# Altium footprint library Phase4.PcbLib: 25 footprints (part 2 of 2)
Each footprint in its own frame and in the unit in brackets; x right, y up, seen from the top. Pads: shape width x height; smd on the part's side, far side on the other; paste and mask are expansions set on the pad; w line width, h text height; cw(c..) or ccw(c..) is an arc to the next point about the centre after c.
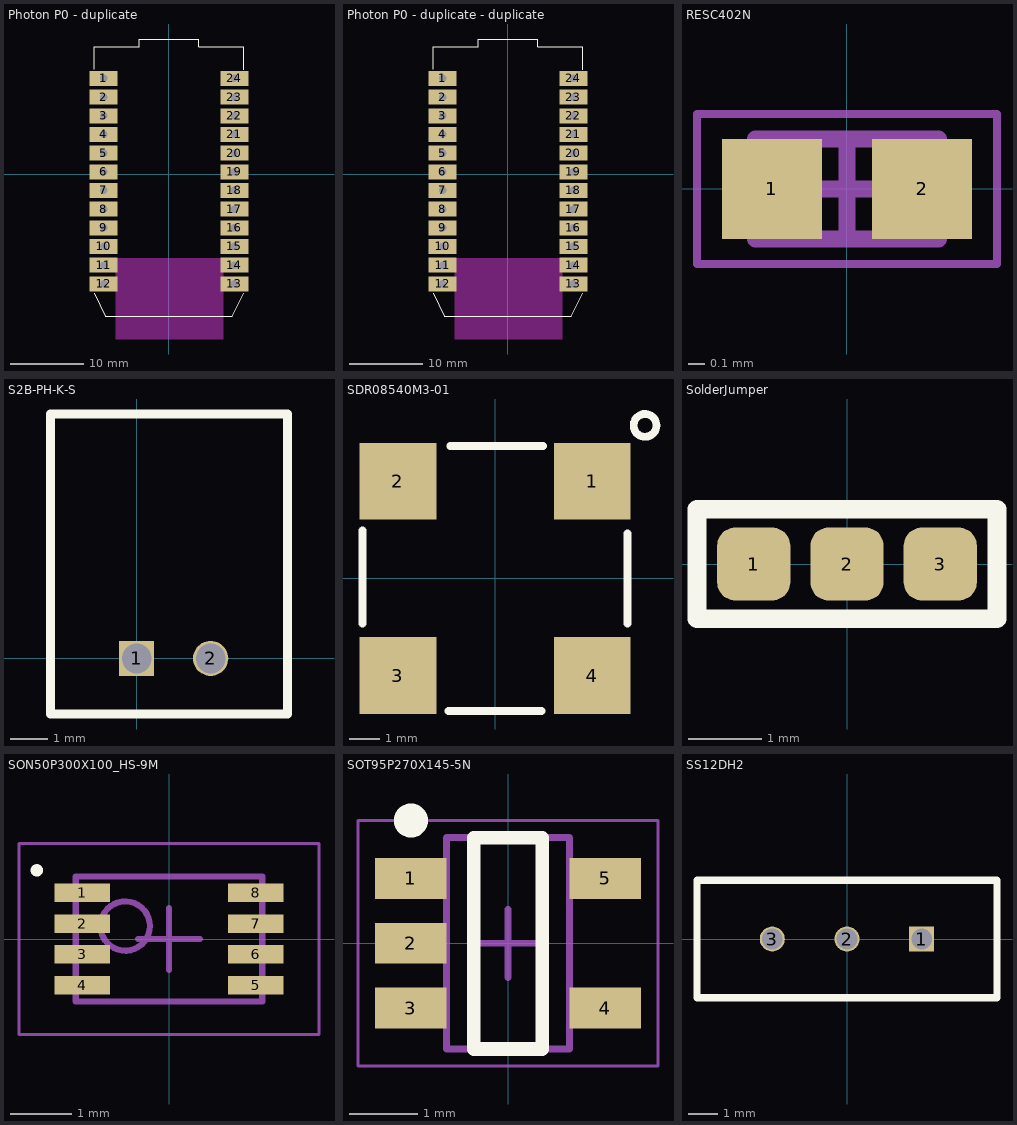
[diagram p1: the footprints below, top view; thin cyan lines are the x and y axes]

## Photon P0 - duplicate [mil]
pads (24):
  rect 150x80 smd: 1(-349.39,513.76) 2(-349.39,413.76) 3(-349.39,313.76) 4(-349.39,213.76) 5(-349.39,113.76) 6(-349.39,13.76) 7(-349.39,-86.24) 8(-349.39,-186.24) 9(-349.39,-286.24) 10(-349.39,-386.24) 11(-349.39,-486.24) 12(-349.41,-586.22) 13(351.39,-586.22) 14(351.38,-486.22) 15(351.38,-386.22) 16(351.38,-286.24) 17(351.38,-186.24) 18(351.38,-86.24) 19(351.38,13.76) 20(351.38,113.76) 21(351.38,213.76) 22(351.38,313.76) 23(351.38,413.76) 24(351.38,513.76)
via -349.41,513.78 diameter 40 hole 40
via -349.41,413.78 diameter 40 hole 40
via -349.39,313.76 diameter 40 hole 40
via -349.39,213.76 diameter 40 hole 40
via -349.39,113.76 diameter 40 hole 40
via -349.39,13.76 diameter 40 hole 40
via -349.39,-86.24 diameter 40 hole 40
via -349.39,-186.24 diameter 40 hole 40
via -349.39,-286.24 diameter 40 hole 40
via -349.39,-386.24 diameter 40 hole 40
via -349.39,-486.24 diameter 40 hole 40
via -349.41,-586.22 diameter 40 hole 40
via 351.38,513.76 diameter 40 hole 40
via 351.38,413.76 diameter 40 hole 40
via 351.38,313.76 diameter 40 hole 40
via 351.38,213.76 diameter 40 hole 40
via 351.38,113.76 diameter 40 hole 40
via 351.38,13.76 diameter 40 hole 40
via 351.38,-86.24 diameter 40 hole 40
via 351.38,-186.24 diameter 40 hole 40
via 351.38,-286.24 diameter 40 hole 40
via 351.38,-386.22 diameter 40 hole 40
via 351.38,-486.22 diameter 40 hole 40
via 351.39,-586.22 diameter 40 hole 40
Top Overlay:
  lines w3.94: -400.59,-635.83 -340,-758.86 ; -400.59,562.99 -400.59,653.54 -400.59,683.07 -157.88,683.07 -157.88,725.28 161.5,725.28 161.5,683.07 165.35,683.07 400.59,683.07 400.59,560.04 ; 0,-759.84 0.98,-758.86 -340,-758.86 ; 400.59,-635.83 340,-758.86 -340,-758.86
Multi-Layer keep-out:
  region: -283.46,-449.8 -282.48,-448.82 290.35,-448.82 290.35,-881.89 -283.46,-881.89
3D body "photon_214.STEP": height 173.52, standoff 2.84, extent -400,-757.5 402,724.7
3D body "Pin Header 1x12 TH Pitch 2.54mm.stp": height 442.74, standoff -57.09, extent 301.39,-636.21 401.39,563.79
3D body "Pin Header 1x12 TH Pitch 2.54mm.stp": height 442.74, standoff -57.09, extent -399.41,-636.21 -299.41,563.79

## Photon P0 - duplicate - duplicate [mil]
pads (24):
  rect 150x80 smd: 1(-349.39,513.76) 2(-349.39,413.76) 3(-349.39,313.76) 4(-349.39,213.76) 5(-349.39,113.76) 6(-349.39,13.76) 7(-349.39,-86.24) 8(-349.39,-186.24) 9(-349.39,-286.24) 10(-349.39,-386.24) 11(-349.39,-486.24) 12(-349.41,-586.22) 13(351.39,-586.22) 14(351.38,-486.22) 15(351.38,-386.22) 16(351.38,-286.24) 17(351.38,-186.24) 18(351.38,-86.24) 19(351.38,13.76) 20(351.38,113.76) 21(351.38,213.76) 22(351.38,313.76) 23(351.38,413.76) 24(351.38,513.76)
via -349.41,513.78 diameter 40 hole 40
via -349.41,413.78 diameter 40 hole 40
via -349.39,313.76 diameter 40 hole 40
via -349.39,213.76 diameter 40 hole 40
via -349.39,113.76 diameter 40 hole 40
via -349.39,13.76 diameter 40 hole 40
via -349.39,-86.24 diameter 40 hole 40
via -349.39,-186.24 diameter 40 hole 40
via -349.39,-286.24 diameter 40 hole 40
via -349.39,-386.24 diameter 40 hole 40
via -349.39,-486.24 diameter 40 hole 40
via -349.41,-586.22 diameter 40 hole 40
via 351.38,513.76 diameter 40 hole 40
via 351.38,413.76 diameter 40 hole 40
via 351.38,313.76 diameter 40 hole 40
via 351.38,213.76 diameter 40 hole 40
via 351.38,113.76 diameter 40 hole 40
via 351.38,13.76 diameter 40 hole 40
via 351.38,-86.24 diameter 40 hole 40
via 351.38,-186.24 diameter 40 hole 40
via 351.38,-286.24 diameter 40 hole 40
via 351.38,-386.22 diameter 40 hole 40
via 351.38,-486.22 diameter 40 hole 40
via 351.39,-586.22 diameter 40 hole 40
Top Overlay:
  lines w3.94: -400.59,-635.83 -340,-758.86 ; -400.59,562.99 -400.59,653.54 -400.59,683.07 -157.88,683.07 -157.88,725.28 161.5,725.28 161.5,683.07 165.35,683.07 400.59,683.07 400.59,560.04 ; 0,-759.84 0.98,-758.86 -340,-758.86 ; 400.59,-635.83 340,-758.86 -340,-758.86
Multi-Layer keep-out:
  region: -283.46,-449.8 -282.48,-448.82 290.35,-448.82 290.35,-881.89 -283.46,-881.89
3D body "photon_214.STEP": height 173.52, standoff 2.84, extent -400,-757.5 402,724.7
3D body "Pin Header 1x12 TH Pitch 2.54mm.stp": height 442.74, standoff -57.09, extent 301.39,-636.21 401.39,563.79
3D body "Pin Header 1x12 TH Pitch 2.54mm.stp": height 442.74, standoff -57.09, extent -399.41,-636.21 -299.41,563.79

## RESC402N [mm] "Chip Resistor, 2-Leads, Body 1.00x0.50mm, IPC Medium Density"
height 0.4
pads (2):
  rect 0.6x0.6 smd: 1(-0.45,0) 2(0.45,0)
Mechanical 13:
  lines w0.1: -0.55,-0.3 -0.55,0.3 0.55,0.3 0.55,-0.3 -0.55,-0.3
Mechanical 15:
  lines w0.05: -0.9,-0.45 -0.9,0.45 0.9,0.45 0.9,-0.45 -0.9,-0.45
  lines w0.1: -0.3,0 0.3,0 ; 0,-0.3 0,0.3
3D body "RESC402N.step": height 0.4, standoff 0, extent -0.55,-0.3 0.55,0.3

## S2B-PH-K-S [mm] "2 Positions Header, Shrouded Connector 0.079\" (2.00mm) Through Hole, Right Angle Tin"
pads (2):
  rect 0.95x0.95 hole 0.8: 1(0,0)
  round 0.95 hole 0.8: 2(2,0)
Top Overlay:
  lines w0.254: -2.325,-1.5 -2.325,6.6 0.275,6.6 1.475,6.6 4.075,6.6 4.075,-1.5 -2.325,-1.5
3D body "S2B-PH-K-S.STEP": height 5.05, standoff -3.15, extent -1.95,-1.325 3.95,6.275

## SDR08540M3-01 [mm] "Speakers & Transducers 88dB 85mA 3volts 2670Hz"
pads (4):
  rect 2.52x2.52 smd: 1(3.19,3.19) 2(-3.19,3.19) 3(-3.19,-3.19) 4(3.19,-3.19)
Top Overlay:
  circle w0.254: c4.925,5.025 r0.375
  lines w0.254: -4.35,-1.475 -4.35,1.575 ; -1.525,-4.35 1.525,-4.35 ; -1.475,4.35 1.575,4.35 ; 4.35,-1.475 4.35,1.475
3D body "SDR08540M3-01.stp": height 4, standoff -0.01, extent -4.225,-4.225 4.275,4.275

## SolderJumper [mm] "3 pos solder Jumper"
pads (3):
  rrect50% 1x1 smd: 1(-1.275,0) 2(0,0) 3(1.275,0)
Top Overlay:
  lines w0.254: -2.05,-0.75 2.05,-0.75 2.05,-0.225 2.05,0.6 2.05,0.75 -2.05,0.75 -2.05,-0.75

## SON50P300X100_HS-9M [mm] "SON, 8-Leads, Body 2.00x3.00mm, Pitch 0.50mm, Thermal Pad 1.63x1.06mm, IPC Low Density"
height 1
pads (8):
  rect 0.9x0.3 smd: 1(-1.405,0.75) 2(-1.405,0.25) 3(-1.405,-0.25) 4(-1.405,-0.75) 5(1.405,-0.75) 6(1.405,-0.25) 7(1.405,0.25) 8(1.405,0.75)
Top Overlay:
  circle w0.1: c-2.142,1.112 r0.05
Mechanical 13:
  circle w0.1: c-0.71,0.21 r0.4
  lines w0.1: -1.51,-1.01 -1.51,1.01 1.51,1.01 1.51,-1.01 -1.51,-1.01
Mechanical 15:
  lines w0.05: -2.43,-1.55 -2.43,1.55 2.43,1.55 2.43,-1.55 -2.43,-1.55
  lines w0.1: -0.5,0 0.5,0 ; 0,-0.5 0,0.5
3D body "SON50P300X100_HS-9M.step": height 1, standoff 0, extent -1.51,-1.01 1.51,1.01

## SOT95P270X145-5N [mm] "SOT23, 5-Leads, Body 2.90x2.70mm, Pitch 0.95mm, IPC Medium Density"
height 1.45
pads (5):
  rect 1.05x0.6 smd: 1(-1.425,0.95) 2(-1.425,0) 3(-1.425,-0.95) 4(1.425,-0.95) 5(1.425,0.95)
Top Overlay:
  circle w0.25: c-1.425,1.8 r0.125
  lines w0.2: -0.5,-1.55 0.5,-1.55 0.5,1.55 -0.5,1.55 -0.5,-1.55
Mechanical 13:
  lines w0.1: -0.9,-1.55 -0.9,1.55 0.9,1.55 0.9,-1.55 -0.9,-1.55
Mechanical 15:
  lines w0.05: -2.2,-1.8 -2.2,1.8 2.2,1.8 2.2,-1.8 -2.2,-1.8
  lines w0.1: -0.5,0 0.5,0 ; 0,-0.5 0,0.5
3D body "SOT95P270X145-5N.step": height 1.45, standoff 0, extent -1.7,-1.55 1.7,1.55

## SS12DH2 [mm] "Slide Switch SPDT Through Hole, Right Angle"
pads (3):
  rect 0.85x0.85 hole 0.7: 1(2.54,0)
  round 0.85 hole 0.7: 2(0,0) 3(-2.54,0)
Top Overlay:
  lines w0.254: -5.1,-2 5.1,-2 5.1,2 -5.1,2 -5.1,-2
3D body "SS12SDH2.stp": height 5.1, standoff -2.9, extent -5.105,-2 5.105,4.477